# Altium schematic symbol library jlcpcb_2025_04_ferrites_extended_1206.schlib: 308 symbols (part 3 of 6)
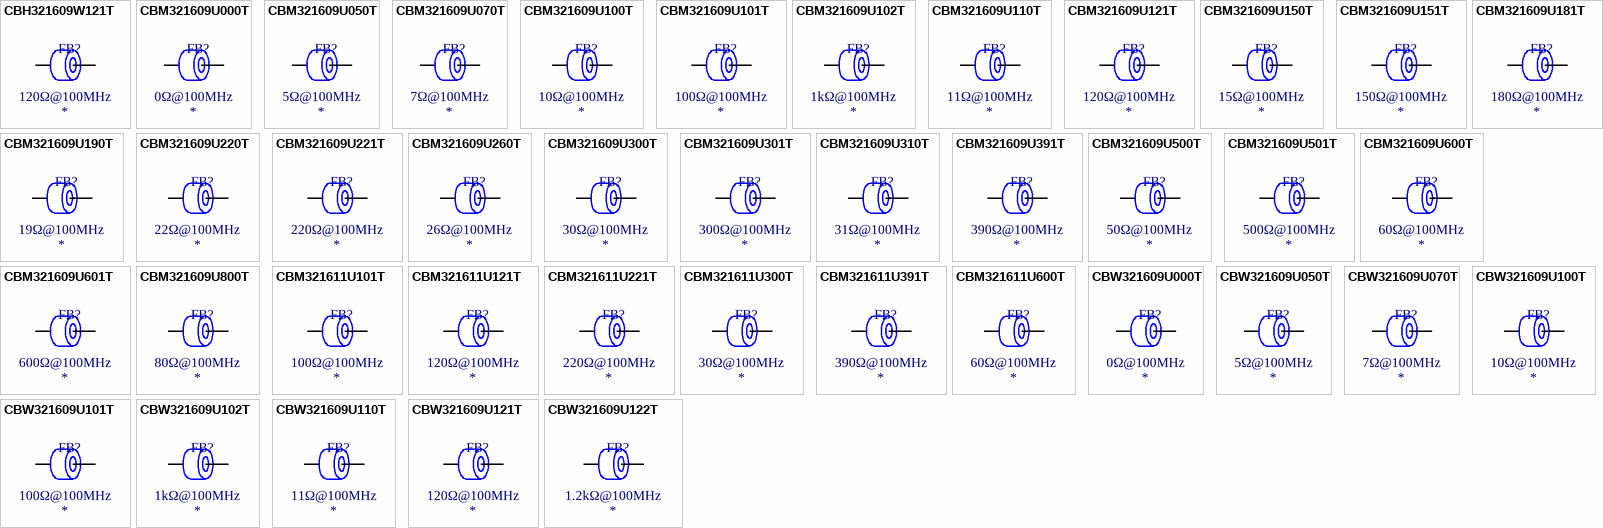
[diagram p9: symbols CBH321609W121T to CBW321609U122T]

## CBM321611U600T
designator FB?  Impedance @ Frequency: 60Ω@100MHz
Ferrite, 60Ω@100MHz, SMD 1206; Manufacturer: FH (Guangdong Fenghua Advanced Tech); Manufacturer Part Number: CBM321611U600T; Package Size: 1206; JLCPCB Basic Part: No; JLCPCB Part Number: C394451; Supplier 1: LCSC; Category: Ferrite Beads; Supplier Part Number 1: C394451; RoHS: Yes; ComponentLink1Description: Datasheet; ComponentLink2Description: JLCPCB Part URL; ComponentLink2URL: https://jlcpcb.com/partdetail/C394451; ComponentLink3Description: LCSC Part URL; ComponentLink3URL: https://lcsc.com/product-detail/Ferrite-Beads_FH-Guangdong-Fenghua-Advanced-Tech-FH-Guangdong-Fenghua-Advanced-Tech-CBM321611U600T_C394451.html
pins: 1, 2

## CBW321609U000T
designator FB?  Impedance @ Frequency: 0Ω@100MHz
Ferrite, 0Ω@100MHz, 40mΩ, 4A, SMD 1206; Manufacturer: FH(Guangdong Fenghua Advanced Tech); Manufacturer Part Number: CBW321609U000T; Package Size: 1206; JLCPCB Basic Part: No; JLCPCB Part Number: C139194; Supplier 1: LCSC; Category: Ferrite Beads; Supplier Part Number 1: C139194; Rated Current: 4A; DC Resistance: 40mΩ; RoHS: Yes; ComponentLink1Description: Datasheet; ComponentLink1URL: https://wmsc.lcsc.com/wmsc/upload/file/pdf/v2/lcsc/2304140030_FH--Guangdong-Fenghua-Advanced-Tech-CBW321609U000T_C139194.pdf; ComponentLink2Description: JLCPCB Part URL; ComponentLink2URL: https://jlcpcb.com/partdetail/C139194; ComponentLink3Description: LCSC Part URL; ComponentLink3URL: https://lcsc.com/product-detail/Ferrite-Beads_FH-Guangdong-Fenghua-Advanced-Tech-FH-Guangdong-Fenghua-Advanced-Tech-CBW321609U000T_C139194.html
pins: 1, 2

## CBW321609U050T
designator FB?  Impedance @ Frequency: 5Ω@100MHz
Ferrite, 5Ω@100MHz, 40mΩ, 4A, SMD 1206; Manufacturer: FH(Guangdong Fenghua Advanced Tech); Manufacturer Part Number: CBW321609U050T; Package Size: 1206; JLCPCB Basic Part: No; JLCPCB Part Number: C139195; Supplier 1: LCSC; Category: Ferrite Beads; Supplier Part Number 1: C139195; Rated Current: 4A; DC Resistance: 40mΩ; RoHS: Yes; ComponentLink1Description: Datasheet; ComponentLink1URL: https://wmsc.lcsc.com/wmsc/upload/file/pdf/v2/lcsc/2304140030_FH--Guangdong-Fenghua-Advanced-Tech-CBW321609U050T_C139195.pdf; ComponentLink2Description: JLCPCB Part URL; ComponentLink2URL: https://jlcpcb.com/partdetail/C139195; ComponentLink3Description: LCSC Part URL; ComponentLink3URL: https://lcsc.com/product-detail/Ferrite-Beads_FH-Guangdong-Fenghua-Advanced-Tech-FH-Guangdong-Fenghua-Advanced-Tech-CBW321609U050T_C139195.html
pins: 1, 2

## CBW321609U070T
designator FB?  Impedance @ Frequency: 7Ω@100MHz
Ferrite, 7Ω@100MHz, 40mΩ, 4A, SMD 1206; Manufacturer: FH(Guangdong Fenghua Advanced Tech); Manufacturer Part Number: CBW321609U070T; Package Size: 1206; JLCPCB Basic Part: No; JLCPCB Part Number: C394495; Supplier 1: LCSC; Category: Ferrite Beads; Supplier Part Number 1: C394495; Rated Current: 4A; DC Resistance: 40mΩ; RoHS: Yes; ComponentLink1Description: Datasheet; ComponentLink1URL: https://wmsc.lcsc.com/wmsc/upload/file/pdf/v2/lcsc/2304140030_FH--Guangdong-Fenghua-Advanced-Tech-CBW321609U070T_C394495.pdf; ComponentLink2Description: JLCPCB Part URL; ComponentLink2URL: https://jlcpcb.com/partdetail/C394495; ComponentLink3Description: LCSC Part URL; ComponentLink3URL: https://lcsc.com/product-detail/Ferrite-Beads_FH-Guangdong-Fenghua-Advanced-Tech-FH-Guangdong-Fenghua-Advanced-Tech-CBW321609U070T_C394495.html
pins: 1, 2

## CBW321609U100T
designator FB?  Impedance @ Frequency: 10Ω@100MHz
Ferrite, 10Ω@100MHz, ±25%, SMD 1206; Manufacturer: FH(Guangdong Fenghua Advanced Tech); Manufacturer Part Number: CBW321609U100T; Package Size: 1206; JLCPCB Basic Part: No; JLCPCB Part Number: C139196; Supplier 1: LCSC; Category: Ferrite Beads; Supplier Part Number 1: C139196; Tolerance: ±25%; RoHS: Yes; ComponentLink1Description: Datasheet; ComponentLink1URL: https://wmsc.lcsc.com/wmsc/upload/file/pdf/v2/lcsc/2304140030_FH--Guangdong-Fenghua-Advanced-Tech-CBW321609U100T_C139196.pdf; ComponentLink2Description: JLCPCB Part URL; ComponentLink2URL: https://jlcpcb.com/partdetail/C139196; ComponentLink3Description: LCSC Part URL; ComponentLink3URL: https://lcsc.com/product-detail/Ferrite-Beads_FH-Guangdong-Fenghua-Advanced-Tech-FH-Guangdong-Fenghua-Advanced-Tech-CBW321609U100T_C139196.html
pins: 1, 2

## CBW321609U101T
designator FB?  Impedance @ Frequency: 100Ω@100MHz
Ferrite, 100Ω@100MHz, ±25%, 100mΩ, 3A, SMD 1206; Manufacturer: FH(Guangdong Fenghua Advanced Tech); Manufacturer Part Number: CBW321609U101T; Package Size: 1206; JLCPCB Basic Part: No; JLCPCB Part Number: C91466; Supplier 1: LCSC; Category: Ferrite Beads; Supplier Part Number 1: C91466; Tolerance: ±25%; Rated Current: 3A; DC Resistance: 100mΩ; RoHS: Yes; ComponentLink1Description: Datasheet; ComponentLink1URL: https://wmsc.lcsc.com/wmsc/upload/file/pdf/v2/lcsc/2304140030_FH--Guangdong-Fenghua-Advanced-Tech-CBW321609U101T_C91466.pdf; ComponentLink2Description: JLCPCB Part URL; ComponentLink2URL: https://jlcpcb.com/partdetail/C91466; ComponentLink3Description: LCSC Part URL; ComponentLink3URL: https://lcsc.com/product-detail/Ferrite-Beads_FH-Guangdong-Fenghua-Advanced-Tech-FH-Guangdong-Fenghua-Advanced-Tech-CBW321609U101T_C91466.html
footprint FB-1206 (1206 (3216M) Ferrite)
pins: 1, 2

## CBW321609U102T
designator FB?  Impedance @ Frequency: 1kΩ@100MHz
Ferrite, 1kΩ@100MHz, ±25%, 300mΩ, 2A, SMD 1206; Manufacturer: FH(Guangdong Fenghua Advanced Tech); Manufacturer Part Number: CBW321609U102T; Package Size: 1206; JLCPCB Basic Part: No; JLCPCB Part Number: C113327; Supplier 1: LCSC; Category: Ferrite Beads; Supplier Part Number 1: C113327; Tolerance: ±25%; Rated Current: 2A; DC Resistance: 300mΩ; RoHS: Yes; ComponentLink1Description: Datasheet; ComponentLink1URL: https://wmsc.lcsc.com/wmsc/upload/file/pdf/v2/lcsc/2304140030_FH--Guangdong-Fenghua-Advanced-Tech-CBW321609U102T_C113327.pdf; ComponentLink2Description: JLCPCB Part URL; ComponentLink2URL: https://jlcpcb.com/partdetail/C113327; ComponentLink3Description: LCSC Part URL; ComponentLink3URL: https://lcsc.com/product-detail/Ferrite-Beads_FH-Guangdong-Fenghua-Advanced-Tech-FH-Guangdong-Fenghua-Advanced-Tech-CBW321609U102T_C113327.html
footprint FB-1206 (1206 (3216M) Ferrite)
pins: 1, 2

## CBW321609U110T
designator FB?  Impedance @ Frequency: 11Ω@100MHz
Ferrite, 11Ω@100MHz, 50mΩ, 4A, SMD 1206; Manufacturer: FH(Guangdong Fenghua Advanced Tech); Manufacturer Part Number: CBW321609U110T; Package Size: 1206; JLCPCB Basic Part: No; JLCPCB Part Number: C394496; Supplier 1: LCSC; Category: Ferrite Beads; Supplier Part Number 1: C394496; Rated Current: 4A; DC Resistance: 50mΩ; RoHS: Yes; ComponentLink1Description: Datasheet; ComponentLink1URL: https://wmsc.lcsc.com/wmsc/upload/file/pdf/v2/lcsc/2304140030_FH--Guangdong-Fenghua-Advanced-Tech-CBW321609U110T_C394496.pdf; ComponentLink2Description: JLCPCB Part URL; ComponentLink2URL: https://jlcpcb.com/partdetail/C394496; ComponentLink3Description: LCSC Part URL; ComponentLink3URL: https://lcsc.com/product-detail/Ferrite-Beads_FH-Guangdong-Fenghua-Advanced-Tech-FH-Guangdong-Fenghua-Advanced-Tech-CBW321609U110T_C394496.html
pins: 1, 2

## CBW321609U121T
designator FB?  Impedance @ Frequency: 120Ω@100MHz
Ferrite, 120Ω@100MHz, ±25%, 100mΩ, 3A, SMD 1206; Manufacturer: FH(Guangdong Fenghua Advanced Tech); Manufacturer Part Number: CBW321609U121T; Package Size: 1206; JLCPCB Basic Part: No; JLCPCB Part Number: C139197; Supplier 1: LCSC; Category: Ferrite Beads; Supplier Part Number 1: C139197; Tolerance: ±25%; Rated Current: 3A; DC Resistance: 100mΩ; RoHS: Yes; ComponentLink1Description: Datasheet; ComponentLink1URL: https://wmsc.lcsc.com/wmsc/upload/file/pdf/v2/lcsc/2304140030_FH--Guangdong-Fenghua-Advanced-Tech-CBW321609U121T_C139197.pdf; ComponentLink2Description: JLCPCB Part URL; ComponentLink2URL: https://jlcpcb.com/partdetail/C139197; ComponentLink3Description: LCSC Part URL; ComponentLink3URL: https://lcsc.com/product-detail/Ferrite-Beads_FH-Guangdong-Fenghua-Advanced-Tech-FH-Guangdong-Fenghua-Advanced-Tech-CBW321609U121T_C139197.html
footprint FB-1206 (1206 (3216M) Ferrite)
pins: 1, 2

## CBW321609U122T
designator FB?  Impedance @ Frequency: 1.2kΩ@100MHz
Ferrite, 1.2kΩ@100MHz, ±25%, 350mΩ, 1A, SMD 1206; Manufacturer: FH(Guangdong Fenghua Advanced Tech); Manufacturer Part Number: CBW321609U122T; Package Size: 1206; JLCPCB Basic Part: No; JLCPCB Part Number: C129398; Supplier 1: LCSC; Category: Ferrite Beads; Supplier Part Number 1: C129398; Tolerance: ±25%; Rated Current: 1A; DC Resistance: 350mΩ; RoHS: Yes; ComponentLink1Description: Datasheet; ComponentLink1URL: https://wmsc.lcsc.com/wmsc/upload/file/pdf/v2/lcsc/2304140030_FH--Guangdong-Fenghua-Advanced-Tech-CBW321609U122T_C129398.pdf; ComponentLink2Description: JLCPCB Part URL; ComponentLink2URL: https://jlcpcb.com/partdetail/C129398; ComponentLink3Description: LCSC Part URL; ComponentLink3URL: https://lcsc.com/product-detail/Ferrite-Beads_FH-Guangdong-Fenghua-Advanced-Tech-FH-Guangdong-Fenghua-Advanced-Tech-CBW321609U122T_C129398.html
footprint FB-1206 (1206 (3216M) Ferrite)
pins: 1, 2

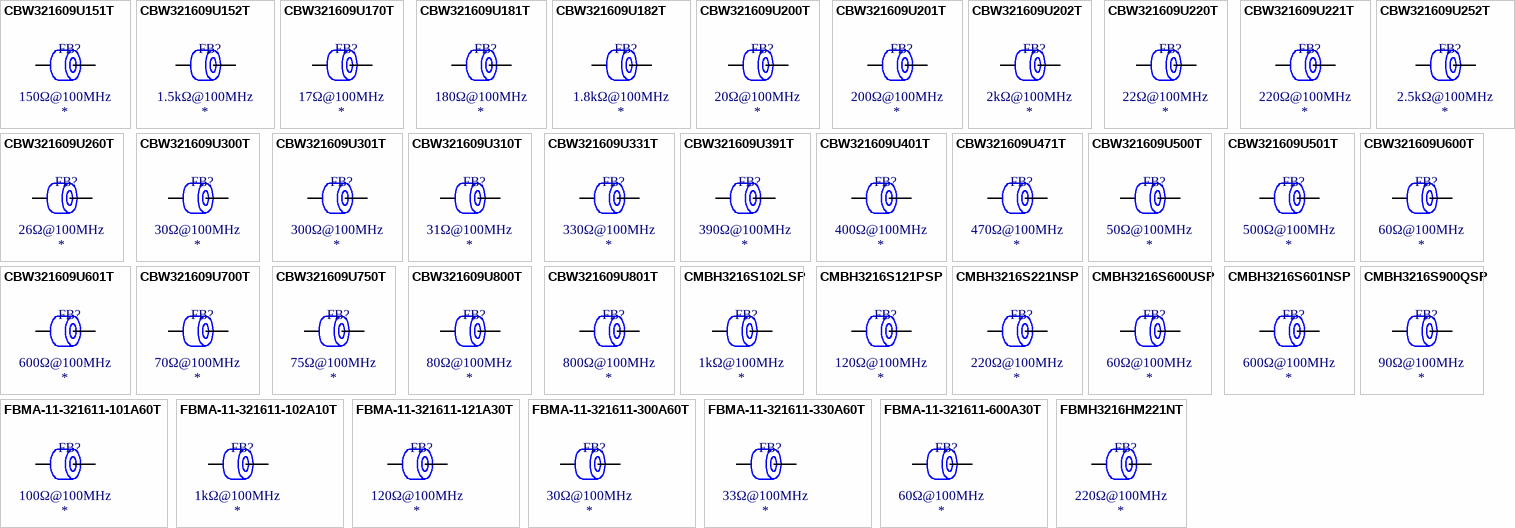
[diagram p3: symbols CBW321609U151T to FBMH3216HM221NT]

## CBW321609U151T
designator FB?  Impedance @ Frequency: 150Ω@100MHz
Ferrite, 150Ω@100MHz, ±25%, 150mΩ, 2.5A, SMD 1206; Manufacturer: FH(Guangdong Fenghua Advanced Tech); Manufacturer Part Number: CBW321609U151T; Package Size: 1206; JLCPCB Basic Part: No; JLCPCB Part Number: C171644; Supplier 1: LCSC; Category: Ferrite Beads; Supplier Part Number 1: C171644; Tolerance: ±25%; Rated Current: 2.5A; DC Resistance: 150mΩ; RoHS: Yes; ComponentLink1Description: Datasheet; ComponentLink1URL: https://wmsc.lcsc.com/wmsc/upload/file/pdf/v2/lcsc/2304140030_FH--Guangdong-Fenghua-Advanced-Tech-CBW321609U151T_C171644.pdf; ComponentLink2Description: JLCPCB Part URL; ComponentLink2URL: https://jlcpcb.com/partdetail/C171644; ComponentLink3Description: LCSC Part URL; ComponentLink3URL: https://lcsc.com/product-detail/Ferrite-Beads_FH-Guangdong-Fenghua-Advanced-Tech-FH-Guangdong-Fenghua-Advanced-Tech-CBW321609U151T_C171644.html
footprint FB-1206 (1206 (3216M) Ferrite)
pins: 1, 2

## CBW321609U152T
designator FB?  Impedance @ Frequency: 1.5kΩ@100MHz
Ferrite, 1.5kΩ@100MHz, ±25%, 450mΩ, 500mA, SMD 1206; Manufacturer: FH(Guangdong Fenghua Advanced Tech); Manufacturer Part Number: CBW321609U152T; Package Size: 1206; JLCPCB Basic Part: No; JLCPCB Part Number: C394497; Supplier 1: LCSC; Category: Ferrite Beads; Supplier Part Number 1: C394497; Tolerance: ±25%; Rated Current: 500mA; DC Resistance: 450mΩ; RoHS: Yes; ComponentLink1Description: Datasheet; ComponentLink1URL: https://wmsc.lcsc.com/wmsc/upload/file/pdf/v2/lcsc/2304140030_FH--Guangdong-Fenghua-Advanced-Tech-CBW321609U152T_C394497.pdf; ComponentLink2Description: JLCPCB Part URL; ComponentLink2URL: https://jlcpcb.com/partdetail/C394497; ComponentLink3Description: LCSC Part URL; ComponentLink3URL: https://lcsc.com/product-detail/Ferrite-Beads_FH-Guangdong-Fenghua-Advanced-Tech-FH-Guangdong-Fenghua-Advanced-Tech-CBW321609U152T_C394497.html
footprint FB-1206 (1206 (3216M) Ferrite)
pins: 1, 2

## CBW321609U170T
designator FB?  Impedance @ Frequency: 17Ω@100MHz
Ferrite, 17Ω@100MHz, ±25%, SMD 1206; Manufacturer: FH(Guangdong Fenghua Advanced Tech); Manufacturer Part Number: CBW321609U170T; Package Size: 1206; JLCPCB Basic Part: No; JLCPCB Part Number: C394498; Supplier 1: LCSC; Category: Ferrite Beads; Supplier Part Number 1: C394498; Tolerance: ±25%; RoHS: Yes; ComponentLink1Description: Datasheet; ComponentLink1URL: https://wmsc.lcsc.com/wmsc/upload/file/pdf/v2/lcsc/1912111437_FH--Guangdong-Fenghua-Advanced-Tech-CBW321609U170T_C394498.pdf; ComponentLink2Description: JLCPCB Part URL; ComponentLink2URL: https://jlcpcb.com/partdetail/C394498; ComponentLink3Description: LCSC Part URL; ComponentLink3URL: https://lcsc.com/product-detail/Ferrite-Beads_FH-Guangdong-Fenghua-Advanced-Tech-FH-Guangdong-Fenghua-Advanced-Tech-CBW321609U170T_C394498.html
pins: 1, 2

## CBW321609U181T
designator FB?  Impedance @ Frequency: 180Ω@100MHz
Ferrite, 180Ω@100MHz, ±25%, 200mΩ, 2.5A, SMD 1206; Manufacturer: FH(Guangdong Fenghua Advanced Tech); Manufacturer Part Number: CBW321609U181T; Package Size: 1206; JLCPCB Basic Part: No; JLCPCB Part Number: C171645; Supplier 1: LCSC; Category: Ferrite Beads; Supplier Part Number 1: C171645; Tolerance: ±25%; Rated Current: 2.5A; DC Resistance: 200mΩ; RoHS: Yes; ComponentLink1Description: Datasheet; ComponentLink1URL: https://wmsc.lcsc.com/wmsc/upload/file/pdf/v2/lcsc/2304140030_FH--Guangdong-Fenghua-Advanced-Tech-CBW321609U181T_C171645.pdf; ComponentLink2Description: JLCPCB Part URL; ComponentLink2URL: https://jlcpcb.com/partdetail/C171645; ComponentLink3Description: LCSC Part URL; ComponentLink3URL: https://lcsc.com/product-detail/Ferrite-Beads_FH-Guangdong-Fenghua-Advanced-Tech-FH-Guangdong-Fenghua-Advanced-Tech-CBW321609U181T_C171645.html
footprint FB-1206 (1206 (3216M) Ferrite)
pins: 1, 2

## CBW321609U182T
designator FB?  Impedance @ Frequency: 1.8kΩ@100MHz
Ferrite, 1.8kΩ@100MHz, ±25%, 600mΩ, 500mA, SMD 1206; Manufacturer: FH(Guangdong Fenghua Advanced Tech); Manufacturer Part Number: CBW321609U182T; Package Size: 1206; JLCPCB Basic Part: No; JLCPCB Part Number: C394499; Supplier 1: LCSC; Category: Ferrite Beads; Supplier Part Number 1: C394499; Tolerance: ±25%; Rated Current: 500mA; DC Resistance: 600mΩ; RoHS: Yes; ComponentLink1Description: Datasheet; ComponentLink1URL: https://wmsc.lcsc.com/wmsc/upload/file/pdf/v2/lcsc/2304140030_FH--Guangdong-Fenghua-Advanced-Tech-CBW321609U182T_C394499.pdf; ComponentLink2Description: JLCPCB Part URL; ComponentLink2URL: https://jlcpcb.com/partdetail/C394499; ComponentLink3Description: LCSC Part URL; ComponentLink3URL: https://lcsc.com/product-detail/Ferrite-Beads_FH-Guangdong-Fenghua-Advanced-Tech-FH-Guangdong-Fenghua-Advanced-Tech-CBW321609U182T_C394499.html
footprint FB-1206 (1206 (3216M) Ferrite)
pins: 1, 2

## CBW321609U200T
designator FB?  Impedance @ Frequency: 20Ω@100MHz
Ferrite, 20Ω@100MHz, ±25%, SMD 1206; Manufacturer: FH(Guangdong Fenghua Advanced Tech); Manufacturer Part Number: CBW321609U200T; Package Size: 1206; JLCPCB Basic Part: No; JLCPCB Part Number: C394501; Supplier 1: LCSC; Category: Ferrite Beads; Supplier Part Number 1: C394501; Tolerance: ±25%; RoHS: Yes; ComponentLink1Description: Datasheet; ComponentLink1URL: https://wmsc.lcsc.com/wmsc/upload/file/pdf/v2/lcsc/1912111437_FH--Guangdong-Fenghua-Advanced-Tech-CBW321609U200T_C394501.pdf; ComponentLink2Description: JLCPCB Part URL; ComponentLink2URL: https://jlcpcb.com/partdetail/C394501; ComponentLink3Description: LCSC Part URL; ComponentLink3URL: https://lcsc.com/product-detail/Ferrite-Beads_FH-Guangdong-Fenghua-Advanced-Tech-FH-Guangdong-Fenghua-Advanced-Tech-CBW321609U200T_C394501.html
pins: 1, 2

## CBW321609U201T
designator FB?  Impedance @ Frequency: 200Ω@100MHz
Ferrite, 200Ω@100MHz, ±25%, SMD 1206; Manufacturer: FH(Guangdong Fenghua Advanced Tech); Manufacturer Part Number: CBW321609U201T; Package Size: 1206; JLCPCB Basic Part: No; JLCPCB Part Number: C139198; Supplier 1: LCSC; Category: Ferrite Beads; Supplier Part Number 1: C139198; Tolerance: ±25%; RoHS: Yes; ComponentLink1Description: Datasheet; ComponentLink1URL: https://wmsc.lcsc.com/wmsc/upload/file/pdf/v2/lcsc/2304140030_FH--Guangdong-Fenghua-Advanced-Tech-CBW321609U201T_C139198.pdf; ComponentLink2Description: JLCPCB Part URL; ComponentLink2URL: https://jlcpcb.com/partdetail/C139198; ComponentLink3Description: LCSC Part URL; ComponentLink3URL: https://lcsc.com/product-detail/Ferrite-Beads_FH-Guangdong-Fenghua-Advanced-Tech-FH-Guangdong-Fenghua-Advanced-Tech-CBW321609U201T_C139198.html
pins: 1, 2

## CBW321609U202T
designator FB?  Impedance @ Frequency: 2kΩ@100MHz
Ferrite, 2kΩ@100MHz, ±25%, 700mΩ, 300mA, SMD 1206; Manufacturer: FH(Guangdong Fenghua Advanced Tech); Manufacturer Part Number: CBW321609U202T; Package Size: 1206; JLCPCB Basic Part: No; JLCPCB Part Number: C268314; Supplier 1: LCSC; Category: Ferrite Beads; Supplier Part Number 1: C268314; Tolerance: ±25%; Rated Current: 300mA; DC Resistance: 700mΩ; RoHS: Yes; ComponentLink1Description: Datasheet; ComponentLink1URL: https://wmsc.lcsc.com/wmsc/upload/file/pdf/v2/lcsc/2304140030_FH--Guangdong-Fenghua-Advanced-Tech-CBW321609U202T_C268314.pdf; ComponentLink2Description: JLCPCB Part URL; ComponentLink2URL: https://jlcpcb.com/partdetail/C268314; ComponentLink3Description: LCSC Part URL; ComponentLink3URL: https://lcsc.com/product-detail/Ferrite-Beads_FH-Guangdong-Fenghua-Advanced-Tech-FH-Guangdong-Fenghua-Advanced-Tech-CBW321609U202T_C268314.html
footprint FB-1206 (1206 (3216M) Ferrite)
pins: 1, 2

## CBW321609U220T
designator FB?  Impedance @ Frequency: 22Ω@100MHz
Ferrite, 22Ω@100MHz, ±25%, SMD 1206; Manufacturer: FH(Guangdong Fenghua Advanced Tech); Manufacturer Part Number: CBW321609U220T; Package Size: 1206; JLCPCB Basic Part: No; JLCPCB Part Number: C394502; Supplier 1: LCSC; Category: Ferrite Beads; Supplier Part Number 1: C394502; Tolerance: ±25%; RoHS: Yes; ComponentLink1Description: Datasheet; ComponentLink1URL: https://wmsc.lcsc.com/wmsc/upload/file/pdf/v2/lcsc/2304140030_FH--Guangdong-Fenghua-Advanced-Tech-CBW321609U220T_C394502.pdf; ComponentLink2Description: JLCPCB Part URL; ComponentLink2URL: https://jlcpcb.com/partdetail/C394502; ComponentLink3Description: LCSC Part URL; ComponentLink3URL: https://lcsc.com/product-detail/Ferrite-Beads_FH-Guangdong-Fenghua-Advanced-Tech-FH-Guangdong-Fenghua-Advanced-Tech-CBW321609U220T_C394502.html
pins: 1, 2

## CBW321609U221T
designator FB?  Impedance @ Frequency: 220Ω@100MHz
Ferrite, 220Ω@100MHz, ±25%, 200mΩ, 2.5A, SMD 1206; Manufacturer: FH(Guangdong Fenghua Advanced Tech); Manufacturer Part Number: CBW321609U221T; Package Size: 1206; JLCPCB Basic Part: No; JLCPCB Part Number: C98487; Supplier 1: LCSC; Category: Ferrite Beads; Supplier Part Number 1: C98487; Tolerance: ±25%; Rated Current: 2.5A; DC Resistance: 200mΩ; RoHS: Yes; ComponentLink1Description: Datasheet; ComponentLink1URL: https://wmsc.lcsc.com/wmsc/upload/file/pdf/v2/lcsc/2304140030_FH--Guangdong-Fenghua-Advanced-Tech-CBW321609U221T_C98487.pdf; ComponentLink2Description: JLCPCB Part URL; ComponentLink2URL: https://jlcpcb.com/partdetail/C98487; ComponentLink3Description: LCSC Part URL; ComponentLink3URL: https://lcsc.com/product-detail/Ferrite-Beads_FH-Guangdong-Fenghua-Advanced-Tech-FH-Guangdong-Fenghua-Advanced-Tech-CBW321609U221T_C98487.html
footprint FB-1206 (1206 (3216M) Ferrite)
pins: 1, 2

## CBW321609U252T
designator FB?  Impedance @ Frequency: 2.5kΩ@100MHz
Ferrite, 2.5kΩ@100MHz, ±25%, 900mΩ, 200mA, SMD 1206; Manufacturer: FH(Guangdong Fenghua Advanced Tech); Manufacturer Part Number: CBW321609U252T; Package Size: 1206; JLCPCB Basic Part: No; JLCPCB Part Number: C394503; Supplier 1: LCSC; Category: Ferrite Beads; Supplier Part Number 1: C394503; Tolerance: ±25%; Rated Current: 200mA; DC Resistance: 900mΩ; RoHS: Yes; ComponentLink1Description: Datasheet; ComponentLink1URL: https://wmsc.lcsc.com/wmsc/upload/file/pdf/v2/lcsc/1912111437_FH--Guangdong-Fenghua-Advanced-Tech-CBW321609U252T_C394503.pdf; ComponentLink2Description: JLCPCB Part URL; ComponentLink2URL: https://jlcpcb.com/partdetail/C394503; ComponentLink3Description: LCSC Part URL; ComponentLink3URL: https://lcsc.com/product-detail/Ferrite-Beads_FH-Guangdong-Fenghua-Advanced-Tech-FH-Guangdong-Fenghua-Advanced-Tech-CBW321609U252T_C394503.html
footprint FB-1206 (1206 (3216M) Ferrite)
pins: 1, 2

## CBW321609U260T
designator FB?  Impedance @ Frequency: 26Ω@100MHz
Ferrite, 26Ω@100MHz, ±25%, 50mΩ, 3A, SMD 1206; Manufacturer: FH(Guangdong Fenghua Advanced Tech); Manufacturer Part Number: CBW321609U260T; Package Size: 1206; JLCPCB Basic Part: No; JLCPCB Part Number: C394504; Supplier 1: LCSC; Category: Ferrite Beads; Supplier Part Number 1: C394504; Tolerance: ±25%; Rated Current: 3A; DC Resistance: 50mΩ; RoHS: Yes; ComponentLink1Description: Datasheet; ComponentLink1URL: https://wmsc.lcsc.com/wmsc/upload/file/pdf/v2/lcsc/2304140030_FH--Guangdong-Fenghua-Advanced-Tech-CBW321609U260T_C394504.pdf; ComponentLink2Description: JLCPCB Part URL; ComponentLink2URL: https://jlcpcb.com/partdetail/C394504; ComponentLink3Description: LCSC Part URL; ComponentLink3URL: https://lcsc.com/product-detail/Ferrite-Beads_FH-Guangdong-Fenghua-Advanced-Tech-FH-Guangdong-Fenghua-Advanced-Tech-CBW321609U260T_C394504.html
footprint FB-1206 (1206 (3216M) Ferrite)
pins: 1, 2

## CBW321609U300T
designator FB?  Impedance @ Frequency: 30Ω@100MHz
Ferrite, 30Ω@100MHz, ±25%, 80mΩ, 3A, SMD 1206; Manufacturer: FH(Guangdong Fenghua Advanced Tech); Manufacturer Part Number: CBW321609U300T; Package Size: 1206; JLCPCB Basic Part: No; JLCPCB Part Number: C139199; Supplier 1: LCSC; Category: Ferrite Beads; Supplier Part Number 1: C139199; Tolerance: ±25%; Rated Current: 3A; DC Resistance: 80mΩ; RoHS: Yes; ComponentLink1Description: Datasheet; ComponentLink1URL: https://wmsc.lcsc.com/wmsc/upload/file/pdf/v2/lcsc/2304140030_FH--Guangdong-Fenghua-Advanced-Tech-CBW321609U300T_C139199.pdf; ComponentLink2Description: JLCPCB Part URL; ComponentLink2URL: https://jlcpcb.com/partdetail/C139199; ComponentLink3Description: LCSC Part URL; ComponentLink3URL: https://lcsc.com/product-detail/Ferrite-Beads_FH-Guangdong-Fenghua-Advanced-Tech-FH-Guangdong-Fenghua-Advanced-Tech-CBW321609U300T_C139199.html
footprint FB-1206 (1206 (3216M) Ferrite)
pins: 1, 2

## CBW321609U301T
designator FB?  Impedance @ Frequency: 300Ω@100MHz
Ferrite, 300Ω@100MHz, ±25%, 200mΩ, 2A, SMD 1206; Manufacturer: FH(Guangdong Fenghua Advanced Tech); Manufacturer Part Number: CBW321609U301T; Package Size: 1206; JLCPCB Basic Part: No; JLCPCB Part Number: C131462; Supplier 1: LCSC; Category: Ferrite Beads; Supplier Part Number 1: C131462; Tolerance: ±25%; Rated Current: 2A; DC Resistance: 200mΩ; RoHS: Yes; ComponentLink1Description: Datasheet; ComponentLink1URL: https://wmsc.lcsc.com/wmsc/upload/file/pdf/v2/lcsc/2304140030_FH--Guangdong-Fenghua-Advanced-Tech-CBW321609U301T_C131462.pdf; ComponentLink2Description: JLCPCB Part URL; ComponentLink2URL: https://jlcpcb.com/partdetail/C131462; ComponentLink3Description: LCSC Part URL; ComponentLink3URL: https://lcsc.com/product-detail/Ferrite-Beads_FH-Guangdong-Fenghua-Advanced-Tech-FH-Guangdong-Fenghua-Advanced-Tech-CBW321609U301T_C131462.html
footprint FB-1206 (1206 (3216M) Ferrite)
pins: 1, 2

## CBW321609U310T
designator FB?  Impedance @ Frequency: 31Ω@100MHz
Ferrite, 31Ω@100MHz, ±25%, 80mΩ, 3A, SMD 1206; Manufacturer: FH(Guangdong Fenghua Advanced Tech); Manufacturer Part Number: CBW321609U310T; Package Size: 1206; JLCPCB Basic Part: No; JLCPCB Part Number: C394505; Supplier 1: LCSC; Category: Ferrite Beads; Supplier Part Number 1: C394505; Tolerance: ±25%; Rated Current: 3A; DC Resistance: 80mΩ; RoHS: Yes; ComponentLink1Description: Datasheet; ComponentLink1URL: https://wmsc.lcsc.com/wmsc/upload/file/pdf/v2/lcsc/2304140030_FH--Guangdong-Fenghua-Advanced-Tech-CBW321609U310T_C394505.pdf; ComponentLink2Description: JLCPCB Part URL; ComponentLink2URL: https://jlcpcb.com/partdetail/C394505; ComponentLink3Description: LCSC Part URL; ComponentLink3URL: https://lcsc.com/product-detail/Ferrite-Beads_FH-Guangdong-Fenghua-Advanced-Tech-FH-Guangdong-Fenghua-Advanced-Tech-CBW321609U310T_C394505.html
footprint FB-1206 (1206 (3216M) Ferrite)
pins: 1, 2

## CBW321609U331T
designator FB?  Impedance @ Frequency: 330Ω@100MHz
Ferrite, 330Ω@100MHz, ±25%, SMD 1206; Manufacturer: FH(Guangdong Fenghua Advanced Tech); Manufacturer Part Number: CBW321609U331T; Package Size: 1206; JLCPCB Basic Part: No; JLCPCB Part Number: C394506; Supplier 1: LCSC; Category: Ferrite Beads; Supplier Part Number 1: C394506; Tolerance: ±25%; RoHS: Yes; ComponentLink1Description: Datasheet; ComponentLink1URL: https://wmsc.lcsc.com/wmsc/upload/file/pdf/v2/lcsc/2304140030_FH--Guangdong-Fenghua-Advanced-Tech-CBW321609U331T_C394506.pdf; ComponentLink2Description: JLCPCB Part URL; ComponentLink2URL: https://jlcpcb.com/partdetail/C394506; ComponentLink3Description: LCSC Part URL; ComponentLink3URL: https://lcsc.com/product-detail/Ferrite-Beads_FH-Guangdong-Fenghua-Advanced-Tech-FH-Guangdong-Fenghua-Advanced-Tech-CBW321609U331T_C394506.html
pins: 1, 2

## CBW321609U391T
designator FB?  Impedance @ Frequency: 390Ω@100MHz
Ferrite, 390Ω@100MHz, ±25%, SMD 1206; Manufacturer: FH(Guangdong Fenghua Advanced Tech); Manufacturer Part Number: CBW321609U391T; Package Size: 1206; JLCPCB Basic Part: No; JLCPCB Part Number: C139200; Supplier 1: LCSC; Category: Ferrite Beads; Supplier Part Number 1: C139200; Tolerance: ±25%; RoHS: Yes; ComponentLink1Description: Datasheet; ComponentLink1URL: https://wmsc.lcsc.com/wmsc/upload/file/pdf/v2/lcsc/1810311214_FH--Guangdong-Fenghua-Advanced-Tech-CBW321609U391T_C139200.pdf; ComponentLink2Description: JLCPCB Part URL; ComponentLink2URL: https://jlcpcb.com/partdetail/C139200; ComponentLink3Description: LCSC Part URL; ComponentLink3URL: https://lcsc.com/product-detail/Ferrite-Beads_FH-Guangdong-Fenghua-Advanced-Tech-FH-Guangdong-Fenghua-Advanced-Tech-CBW321609U391T_C139200.html
pins: 1, 2

## CBW321609U401T
designator FB?  Impedance @ Frequency: 400Ω@100MHz
Ferrite, 400Ω@100MHz, ±25%, SMD 1206; Manufacturer: FH(Guangdong Fenghua Advanced Tech); Manufacturer Part Number: CBW321609U401T; Package Size: 1206; JLCPCB Basic Part: No; JLCPCB Part Number: C394507; Supplier 1: LCSC; Category: Ferrite Beads; Supplier Part Number 1: C394507; Tolerance: ±25%; RoHS: Yes; ComponentLink1Description: Datasheet; ComponentLink1URL: https://wmsc.lcsc.com/wmsc/upload/file/pdf/v2/lcsc/1912111437_FH--Guangdong-Fenghua-Advanced-Tech-CBW321609U401T_C394507.pdf; ComponentLink2Description: JLCPCB Part URL; ComponentLink2URL: https://jlcpcb.com/partdetail/C394507; ComponentLink3Description: LCSC Part URL; ComponentLink3URL: https://lcsc.com/product-detail/Ferrite-Beads_FH-Guangdong-Fenghua-Advanced-Tech-FH-Guangdong-Fenghua-Advanced-Tech-CBW321609U401T_C394507.html
pins: 1, 2

## CBW321609U471T
designator FB?  Impedance @ Frequency: 470Ω@100MHz
Ferrite, 470Ω@100MHz, ±25%, SMD 1206; Manufacturer: FH(Guangdong Fenghua Advanced Tech); Manufacturer Part Number: CBW321609U471T; Package Size: 1206; JLCPCB Basic Part: No; JLCPCB Part Number: C394508; Supplier 1: LCSC; Category: Ferrite Beads; Supplier Part Number 1: C394508; Tolerance: ±25%; RoHS: Yes; ComponentLink1Description: Datasheet; ComponentLink1URL: https://wmsc.lcsc.com/wmsc/upload/file/pdf/v2/lcsc/2304140030_FH--Guangdong-Fenghua-Advanced-Tech-CBW321609U471T_C394508.pdf; ComponentLink2Description: JLCPCB Part URL; ComponentLink2URL: https://jlcpcb.com/partdetail/C394508; ComponentLink3Description: LCSC Part URL; ComponentLink3URL: https://lcsc.com/product-detail/Ferrite-Beads_FH-Guangdong-Fenghua-Advanced-Tech-FH-Guangdong-Fenghua-Advanced-Tech-CBW321609U471T_C394508.html
pins: 1, 2

## CBW321609U500T
designator FB?  Impedance @ Frequency: 50Ω@100MHz
Ferrite, 50Ω@100MHz, ±25%, 100mΩ, 3A, SMD 1206; Manufacturer: FH(Guangdong Fenghua Advanced Tech); Manufacturer Part Number: CBW321609U500T; Package Size: 1206; JLCPCB Basic Part: No; JLCPCB Part Number: C361673; Supplier 1: LCSC; Category: Ferrite Beads; Supplier Part Number 1: C361673; Tolerance: ±25%; Rated Current: 3A; DC Resistance: 100mΩ; RoHS: Yes; ComponentLink1Description: Datasheet; ComponentLink1URL: https://wmsc.lcsc.com/wmsc/upload/file/pdf/v2/lcsc/2304140030_FH--Guangdong-Fenghua-Advanced-Tech-CBW321609U500T_C361673.pdf; ComponentLink2Description: JLCPCB Part URL; ComponentLink2URL: https://jlcpcb.com/partdetail/C361673; ComponentLink3Description: LCSC Part URL; ComponentLink3URL: https://lcsc.com/product-detail/Ferrite-Beads_FH-Guangdong-Fenghua-Advanced-Tech-FH-Guangdong-Fenghua-Advanced-Tech-CBW321609U500T_C361673.html
footprint FB-1206 (1206 (3216M) Ferrite)
pins: 1, 2

## CBW321609U501T
designator FB?  Impedance @ Frequency: 500Ω@100MHz
Ferrite, 500Ω@100MHz, ±25%, 200mΩ, 2A, SMD 1206; Manufacturer: FH(Guangdong Fenghua Advanced Tech); Manufacturer Part Number: CBW321609U501T; Package Size: 1206; JLCPCB Basic Part: No; JLCPCB Part Number: C139201; Supplier 1: LCSC; Category: Ferrite Beads; Supplier Part Number 1: C139201; Tolerance: ±25%; Rated Current: 2A; DC Resistance: 200mΩ; RoHS: Yes; ComponentLink1Description: Datasheet; ComponentLink1URL: https://wmsc.lcsc.com/wmsc/upload/file/pdf/v2/lcsc/2304140030_FH--Guangdong-Fenghua-Advanced-Tech-CBW321609U501T_C139201.pdf; ComponentLink2Description: JLCPCB Part URL; ComponentLink2URL: https://jlcpcb.com/partdetail/C139201; ComponentLink3Description: LCSC Part URL; ComponentLink3URL: https://lcsc.com/product-detail/Ferrite-Beads_FH-Guangdong-Fenghua-Advanced-Tech-FH-Guangdong-Fenghua-Advanced-Tech-CBW321609U501T_C139201.html
footprint FB-1206 (1206 (3216M) Ferrite)
pins: 1, 2

## CBW321609U600T
designator FB?  Impedance @ Frequency: 60Ω@100MHz
Ferrite, 60Ω@100MHz, ±25%, 100mΩ, 3A, SMD 1206; Manufacturer: FH(Guangdong Fenghua Advanced Tech); Manufacturer Part Number: CBW321609U600T; Package Size: 1206; JLCPCB Basic Part: No; JLCPCB Part Number: C131463; Supplier 1: LCSC; Category: Ferrite Beads; Supplier Part Number 1: C131463; Tolerance: ±25%; Rated Current: 3A; DC Resistance: 100mΩ; RoHS: Yes; ComponentLink1Description: Datasheet; ComponentLink1URL: https://wmsc.lcsc.com/wmsc/upload/file/pdf/v2/lcsc/2304140030_FH--Guangdong-Fenghua-Advanced-Tech-CBW321609U600T_C131463.pdf; ComponentLink2Description: JLCPCB Part URL; ComponentLink2URL: https://jlcpcb.com/partdetail/C131463; ComponentLink3Description: LCSC Part URL; ComponentLink3URL: https://lcsc.com/product-detail/Ferrite-Beads_FH-Guangdong-Fenghua-Advanced-Tech-FH-Guangdong-Fenghua-Advanced-Tech-CBW321609U600T_C131463.html
footprint FB-1206 (1206 (3216M) Ferrite)
pins: 1, 2

## CBW321609U601T
designator FB?  Impedance @ Frequency: 600Ω@100MHz
Ferrite, 600Ω@100MHz, ±25%, 250mΩ, 2A, SMD 1206; Manufacturer: FH(Guangdong Fenghua Advanced Tech); Manufacturer Part Number: CBW321609U601T; Package Size: 1206; JLCPCB Basic Part: No; JLCPCB Part Number: C73732; Supplier 1: LCSC; Category: Ferrite Beads; Supplier Part Number 1: C73732; Tolerance: ±25%; Rated Current: 2A; DC Resistance: 250mΩ; RoHS: Yes; ComponentLink1Description: Datasheet; ComponentLink1URL: https://wmsc.lcsc.com/wmsc/upload/file/pdf/v2/lcsc/2304140030_FH--Guangdong-Fenghua-Advanced-Tech-CBW321609U601T_C73732.pdf; ComponentLink2Description: JLCPCB Part URL; ComponentLink2URL: https://jlcpcb.com/partdetail/C73732; ComponentLink3Description: LCSC Part URL; ComponentLink3URL: https://lcsc.com/product-detail/Ferrite-Beads_FH-Guangdong-Fenghua-Advanced-Tech-FH-Guangdong-Fenghua-Advanced-Tech-CBW321609U601T_C73732.html
footprint FB-1206 (1206 (3216M) Ferrite)
pins: 1, 2

## CBW321609U700T
designator FB?  Impedance @ Frequency: 70Ω@100MHz
Ferrite, 70Ω@100MHz, ±25%, 100mΩ, 3A, SMD 1206; Manufacturer: FH(Guangdong Fenghua Advanced Tech); Manufacturer Part Number: CBW321609U700T; Package Size: 1206; JLCPCB Basic Part: No; JLCPCB Part Number: C304172; Supplier 1: LCSC; Category: Ferrite Beads; Supplier Part Number 1: C304172; Tolerance: ±25%; Rated Current: 3A; DC Resistance: 100mΩ; RoHS: Yes; ComponentLink1Description: Datasheet; ComponentLink1URL: https://wmsc.lcsc.com/wmsc/upload/file/pdf/v2/lcsc/1912111437_FH--Guangdong-Fenghua-Advanced-Tech-CBW321609U700T_C304172.pdf; ComponentLink2Description: JLCPCB Part URL; ComponentLink2URL: https://jlcpcb.com/partdetail/C304172; ComponentLink3Description: LCSC Part URL; ComponentLink3URL: https://lcsc.com/product-detail/Ferrite-Beads_FH-Guangdong-Fenghua-Advanced-Tech-FH-Guangdong-Fenghua-Advanced-Tech-CBW321609U700T_C304172.html
footprint FB-1206 (1206 (3216M) Ferrite)
pins: 1, 2

## CBW321609U750T
designator FB?  Impedance @ Frequency: 75Ω@100MHz
Ferrite, 75Ω@100MHz, ±25%, SMD 1206; Manufacturer: FH(Guangdong Fenghua Advanced Tech); Manufacturer Part Number: CBW321609U750T; Package Size: 1206; JLCPCB Basic Part: No; JLCPCB Part Number: C316447; Supplier 1: LCSC; Category: Ferrite Beads; Supplier Part Number 1: C316447; Tolerance: ±25%; RoHS: Yes; ComponentLink1Description: Datasheet; ComponentLink1URL: https://wmsc.lcsc.com/wmsc/upload/file/pdf/v2/lcsc/1811011950_FH--Guangdong-Fenghua-Advanced-Tech-CBW321609U750T_C316447.pdf; ComponentLink2Description: JLCPCB Part URL; ComponentLink2URL: https://jlcpcb.com/partdetail/C316447; ComponentLink3Description: LCSC Part URL; ComponentLink3URL: https://lcsc.com/product-detail/Ferrite-Beads_FH-Guangdong-Fenghua-Advanced-Tech-FH-Guangdong-Fenghua-Advanced-Tech-CBW321609U750T_C316447.html
pins: 1, 2

## CBW321609U800T
designator FB?  Impedance @ Frequency: 80Ω@100MHz
Ferrite, 80Ω@100MHz, ±25%, 100mΩ, 3A, SMD 1206; Manufacturer: FH(Guangdong Fenghua Advanced Tech); Manufacturer Part Number: CBW321609U800T; Package Size: 1206; JLCPCB Basic Part: No; JLCPCB Part Number: C130273; Supplier 1: LCSC; Category: Ferrite Beads; Supplier Part Number 1: C130273; Tolerance: ±25%; Rated Current: 3A; DC Resistance: 100mΩ; RoHS: Yes; ComponentLink1Description: Datasheet; ComponentLink1URL: https://wmsc.lcsc.com/wmsc/upload/file/pdf/v2/lcsc/2304140030_FH--Guangdong-Fenghua-Advanced-Tech-CBW321609U800T_C130273.pdf; ComponentLink2Description: JLCPCB Part URL; ComponentLink2URL: https://jlcpcb.com/partdetail/C130273; ComponentLink3Description: LCSC Part URL; ComponentLink3URL: https://lcsc.com/product-detail/Ferrite-Beads_FH-Guangdong-Fenghua-Advanced-Tech-FH-Guangdong-Fenghua-Advanced-Tech-CBW321609U800T_C130273.html
footprint FB-1206 (1206 (3216M) Ferrite)
pins: 1, 2

## CBW321609U801T
designator FB?  Impedance @ Frequency: 800Ω@100MHz
Ferrite, 800Ω@100MHz, ±25%, 250mΩ, 2A, SMD 1206; Manufacturer: FH(Guangdong Fenghua Advanced Tech); Manufacturer Part Number: CBW321609U801T; Package Size: 1206; JLCPCB Basic Part: No; JLCPCB Part Number: C171643; Supplier 1: LCSC; Category: Ferrite Beads; Supplier Part Number 1: C171643; Tolerance: ±25%; Rated Current: 2A; DC Resistance: 250mΩ; RoHS: Yes; ComponentLink1Description: Datasheet; ComponentLink1URL: https://wmsc.lcsc.com/wmsc/upload/file/pdf/v2/lcsc/2304140030_FH--Guangdong-Fenghua-Advanced-Tech-CBW321609U801T_C171643.pdf; ComponentLink2Description: JLCPCB Part URL; ComponentLink2URL: https://jlcpcb.com/partdetail/C171643; ComponentLink3Description: LCSC Part URL; ComponentLink3URL: https://lcsc.com/product-detail/Ferrite-Beads_FH-Guangdong-Fenghua-Advanced-Tech-FH-Guangdong-Fenghua-Advanced-Tech-CBW321609U801T_C171643.html
footprint FB-1206 (1206 (3216M) Ferrite)
pins: 1, 2

## CMBH3216S102LSP
designator FB?  Impedance @ Frequency: 1kΩ@100MHz
Ferrite, 1kΩ@100MHz, ±25%, 300mΩ, 1A, SMD 1206; Manufacturer: Cybermax; Manufacturer Part Number: CMBH3216S102LSP; Package Size: 1206; JLCPCB Basic Part: No; JLCPCB Part Number: C405017; Supplier 1: LCSC; Category: Ferrite Beads; Supplier Part Number 1: C405017; Tolerance: ±25%; Rated Current: 1A; DC Resistance: 300mΩ; RoHS: Yes; ComponentLink1Description: Datasheet; ComponentLink1URL: https://wmsc.lcsc.com/wmsc/upload/file/pdf/v2/lcsc/1912111437_Cybermax-CMBH3216S102LSP_C405017.pdf; ComponentLink2Description: JLCPCB Part URL; ComponentLink2URL: https://jlcpcb.com/partdetail/C405017; ComponentLink3Description: LCSC Part URL; ComponentLink3URL: https://lcsc.com/product-detail/Ferrite-Beads_Cybermax-Cybermax-CMBH3216S102LSP_C405017.html
footprint FB-1206 (1206 (3216M) Ferrite)
pins: 1, 2

## CMBH3216S121PSP
designator FB?  Impedance @ Frequency: 120Ω@100MHz
Ferrite, 120Ω@100MHz, ±25%, 2.5A, SMD 1206; Manufacturer: Cybermax; Manufacturer Part Number: CMBH3216S121PSP; Package Size: 1206; JLCPCB Basic Part: No; JLCPCB Part Number: C405014; Supplier 1: LCSC; Category: Ferrite Beads; Supplier Part Number 1: C405014; Tolerance: ±25%; Rated Current: 2.5A; RoHS: Yes; ComponentLink1Description: Datasheet; ComponentLink1URL: https://wmsc.lcsc.com/wmsc/upload/file/pdf/v2/lcsc/2304140030_Cybermax-CMBH3216S121PSP_C405014.pdf; ComponentLink2Description: JLCPCB Part URL; ComponentLink2URL: https://jlcpcb.com/partdetail/C405014; ComponentLink3Description: LCSC Part URL; ComponentLink3URL: https://lcsc.com/product-detail/Ferrite-Beads_Cybermax-Cybermax-CMBH3216S121PSP_C405014.html
pins: 1, 2

## CMBH3216S221NSP
designator FB?  Impedance @ Frequency: 220Ω@100MHz
Ferrite, 220Ω@100MHz, ±25%, 2A, SMD 1206; Manufacturer: Cybermax; Manufacturer Part Number: CMBH3216S221NSP; Package Size: 1206; JLCPCB Basic Part: No; JLCPCB Part Number: C405015; Supplier 1: LCSC; Category: Ferrite Beads; Supplier Part Number 1: C405015; Tolerance: ±25%; Rated Current: 2A; RoHS: Yes; ComponentLink1Description: Datasheet; ComponentLink1URL: https://wmsc.lcsc.com/wmsc/upload/file/pdf/v2/lcsc/2304140030_Cybermax-CMBH3216S221NSP_C405015.pdf; ComponentLink2Description: JLCPCB Part URL; ComponentLink2URL: https://jlcpcb.com/partdetail/C405015; ComponentLink3Description: LCSC Part URL; ComponentLink3URL: https://lcsc.com/product-detail/Ferrite-Beads_Cybermax-Cybermax-CMBH3216S221NSP_C405015.html
pins: 1, 2

## CMBH3216S600USP
designator FB?  Impedance @ Frequency: 60Ω@100MHz
Ferrite, 60Ω@100MHz, ±25%, 15mΩ, 5A, SMD 1206; Manufacturer: Cybermax; Manufacturer Part Number: CMBH3216S600USP; Package Size: 1206; JLCPCB Basic Part: No; JLCPCB Part Number: C405012; Supplier 1: LCSC; Category: Ferrite Beads; Supplier Part Number 1: C405012; Tolerance: ±25%; Rated Current: 5A; DC Resistance: 15mΩ; RoHS: Yes; ComponentLink1Description: Datasheet; ComponentLink1URL: https://wmsc.lcsc.com/wmsc/upload/file/pdf/v2/lcsc/2304140030_Cybermax-CMBH3216S600USP_C405012.pdf; ComponentLink2Description: JLCPCB Part URL; ComponentLink2URL: https://jlcpcb.com/partdetail/C405012; ComponentLink3Description: LCSC Part URL; ComponentLink3URL: https://lcsc.com/product-detail/Ferrite-Beads_Cybermax-Cybermax-CMBH3216S600USP_C405012.html
footprint FB-1206 (1206 (3216M) Ferrite)
pins: 1, 2

## CMBH3216S601NSP
designator FB?  Impedance @ Frequency: 600Ω@100MHz
Ferrite, 600Ω@100MHz, ±25%, 100mΩ, 2A, SMD 1206; Manufacturer: Cybermax; Manufacturer Part Number: CMBH3216S601NSP; Package Size: 1206; JLCPCB Basic Part: No; JLCPCB Part Number: C405016; Supplier 1: LCSC; Category: Ferrite Beads; Supplier Part Number 1: C405016; Tolerance: ±25%; Rated Current: 2A; DC Resistance: 100mΩ; RoHS: Yes; ComponentLink1Description: Datasheet; ComponentLink1URL: https://wmsc.lcsc.com/wmsc/upload/file/pdf/v2/lcsc/2304140030_Cybermax-CMBH3216S601NSP_C405016.pdf; ComponentLink2Description: JLCPCB Part URL; ComponentLink2URL: https://jlcpcb.com/partdetail/C405016; ComponentLink3Description: LCSC Part URL; ComponentLink3URL: https://lcsc.com/product-detail/Ferrite-Beads_Cybermax-Cybermax-CMBH3216S601NSP_C405016.html
footprint FB-1206 (1206 (3216M) Ferrite)
pins: 1, 2

## CMBH3216S900QSP
designator FB?  Impedance @ Frequency: 90Ω@100MHz
Ferrite, 90Ω@100MHz, ±25%, 25mΩ, 3A, SMD 1206; Manufacturer: Cybermax; Manufacturer Part Number: CMBH3216S900QSP; Package Size: 1206; JLCPCB Basic Part: No; JLCPCB Part Number: C405013; Supplier 1: LCSC; Category: Ferrite Beads; Supplier Part Number 1: C405013; Tolerance: ±25%; Rated Current: 3A; DC Resistance: 25mΩ; RoHS: Yes; ComponentLink1Description: Datasheet; ComponentLink1URL: https://wmsc.lcsc.com/wmsc/upload/file/pdf/v2/lcsc/2304140030_Cybermax-CMBH3216S900QSP_C405013.pdf; ComponentLink2Description: JLCPCB Part URL; ComponentLink2URL: https://jlcpcb.com/partdetail/C405013; ComponentLink3Description: LCSC Part URL; ComponentLink3URL: https://lcsc.com/product-detail/Ferrite-Beads_Cybermax-Cybermax-CMBH3216S900QSP_C405013.html
footprint FB-1206 (1206 (3216M) Ferrite)
pins: 1, 2

## FBMA-11-321611-101A60T
designator FB?  Impedance @ Frequency: 100Ω@100MHz
Ferrite, 100Ω@100MHz, ±25%, 10mΩ, 6A, SMD 1206; Manufacturer: Kingcore; Manufacturer Part Number: FBMA-11-321611-101A60T; Package Size: 1206; JLCPCB Basic Part: No; JLCPCB Part Number: C491620; Supplier 1: LCSC; Category: Ferrite Beads; Supplier Part Number 1: C491620; Tolerance: ±25%; Rated Current: 6A; DC Resistance: 10mΩ; RoHS: Yes; ComponentLink1Description: Datasheet; ComponentLink1URL: https://datasheet.lcsc.com/lcsc/2003182011_Kingcore-FBMA-11-321611-101A60T_C491620.pdf; ComponentLink2Description: JLCPCB Part URL; ComponentLink2URL: https://jlcpcb.com/partdetail/C491620; ComponentLink3Description: LCSC Part URL; ComponentLink3URL: https://lcsc.com/product-detail/Ferrite-Beads_Kingcore-Kingcore-FBMA-11-321611-101A60T_C491620.html
footprint FB-1206 (1206 (3216M) Ferrite)
pins: 1, 2

## FBMA-11-321611-102A10T
designator FB?  Impedance @ Frequency: 1kΩ@100MHz
Ferrite, 1kΩ@100MHz, ±25%, 200mΩ, 1A, SMD 1206; Manufacturer: Kingcore; Manufacturer Part Number: FBMA-11-321611-102A10T; Package Size: 1206; JLCPCB Basic Part: No; JLCPCB Part Number: C491637; Supplier 1: LCSC; Category: Ferrite Beads; Supplier Part Number 1: C491637; Tolerance: ±25%; Rated Current: 1A; DC Resistance: 200mΩ; RoHS: Yes; ComponentLink1Description: Datasheet; ComponentLink1URL: https://datasheet.lcsc.com/lcsc/2003182012_Kingcore-FBMA-11-321611-102A10T_C491637.pdf; ComponentLink2Description: JLCPCB Part URL; ComponentLink2URL: https://jlcpcb.com/partdetail/C491637; ComponentLink3Description: LCSC Part URL; ComponentLink3URL: https://lcsc.com/product-detail/Ferrite-Beads_Kingcore-Kingcore-FBMA-11-321611-102A10T_C491637.html
footprint FB-1206 (1206 (3216M) Ferrite)
pins: 1, 2

## FBMA-11-321611-121A30T
designator FB?  Impedance @ Frequency: 120Ω@100MHz
Ferrite, 120Ω@100MHz, ±25%, 40mΩ, 3A, SMD 1206; Manufacturer: Kingcore; Manufacturer Part Number: FBMA-11-321611-121A30T; Package Size: 1206; JLCPCB Basic Part: No; JLCPCB Part Number: C491622; Supplier 1: LCSC; Category: Ferrite Beads; Supplier Part Number 1: C491622; Tolerance: ±25%; Rated Current: 3A; DC Resistance: 40mΩ; RoHS: Yes; ComponentLink1Description: Datasheet; ComponentLink1URL: https://datasheet.lcsc.com/lcsc/2003182011_Kingcore-FBMA-11-321611-121A30T_C491622.pdf; ComponentLink2Description: JLCPCB Part URL; ComponentLink2URL: https://jlcpcb.com/partdetail/C491622; ComponentLink3Description: LCSC Part URL; ComponentLink3URL: https://lcsc.com/product-detail/Ferrite-Beads_Kingcore-Kingcore-FBMA-11-321611-121A30T_C491622.html
footprint FB-1206 (1206 (3216M) Ferrite)
pins: 1, 2

## FBMA-11-321611-300A60T
designator FB?  Impedance @ Frequency: 30Ω@100MHz
Ferrite, 30Ω@100MHz, ±25%, 10mΩ, 6A, SMD 1206; Manufacturer: Kingcore; Manufacturer Part Number: FBMA-11-321611-300A60T; Package Size: 1206; JLCPCB Basic Part: No; JLCPCB Part Number: C491605; Supplier 1: LCSC; Category: Ferrite Beads; Supplier Part Number 1: C491605; Tolerance: ±25%; Rated Current: 6A; DC Resistance: 10mΩ; RoHS: Yes; ComponentLink1Description: Datasheet; ComponentLink1URL: https://datasheet.lcsc.com/lcsc/2003182011_Kingcore-FBMA-11-321611-300A60T_C491605.pdf; ComponentLink2Description: JLCPCB Part URL; ComponentLink2URL: https://jlcpcb.com/partdetail/C491605; ComponentLink3Description: LCSC Part URL; ComponentLink3URL: https://lcsc.com/product-detail/Ferrite-Beads_Kingcore-Kingcore-FBMA-11-321611-300A60T_C491605.html
footprint FB-1206 (1206 (3216M) Ferrite)
pins: 1, 2

## FBMA-11-321611-330A60T
designator FB?  Impedance @ Frequency: 33Ω@100MHz
Ferrite, 33Ω@100MHz, ±25%, 10mΩ, 6A, SMD 1206; Manufacturer: Kingcore; Manufacturer Part Number: FBMA-11-321611-330A60T; Package Size: 1206; JLCPCB Basic Part: No; JLCPCB Part Number: C491609; Supplier 1: LCSC; Category: Ferrite Beads; Supplier Part Number 1: C491609; Tolerance: ±25%; Rated Current: 6A; DC Resistance: 10mΩ; RoHS: Yes; ComponentLink1Description: Datasheet; ComponentLink1URL: https://datasheet.lcsc.com/lcsc/2003182011_Kingcore-FBMA-11-321611-330A60T_C491609.pdf; ComponentLink2Description: JLCPCB Part URL; ComponentLink2URL: https://jlcpcb.com/partdetail/C491609; ComponentLink3Description: LCSC Part URL; ComponentLink3URL: https://lcsc.com/product-detail/Ferrite-Beads_Kingcore-Kingcore-FBMA-11-321611-330A60T_C491609.html
footprint FB-1206 (1206 (3216M) Ferrite)
pins: 1, 2

## FBMA-11-321611-600A30T
designator FB?  Impedance @ Frequency: 60Ω@100MHz
Ferrite, 60Ω@100MHz, ±25%, 40mΩ, 3A, SMD 1206; Manufacturer: Kingcore; Manufacturer Part Number: FBMA-11-321611-600A30T; Package Size: 1206; JLCPCB Basic Part: No; JLCPCB Part Number: C491614; Supplier 1: LCSC; Category: Ferrite Beads; Supplier Part Number 1: C491614; Tolerance: ±25%; Rated Current: 3A; DC Resistance: 40mΩ; RoHS: Yes; ComponentLink1Description: Datasheet; ComponentLink1URL: https://datasheet.lcsc.com/lcsc/2003182011_Kingcore-FBMA-11-321611-600A30T_C491614.pdf; ComponentLink2Description: JLCPCB Part URL; ComponentLink2URL: https://jlcpcb.com/partdetail/C491614; ComponentLink3Description: LCSC Part URL; ComponentLink3URL: https://lcsc.com/product-detail/Ferrite-Beads_Kingcore-Kingcore-FBMA-11-321611-600A30T_C491614.html
footprint FB-1206 (1206 (3216M) Ferrite)
pins: 1, 2

## FBMH3216HM221NT
designator FB?  Impedance @ Frequency: 220Ω@100MHz
Ferrite, 220Ω@100MHz, ±30%, 20mΩ, 4A, SMD 1206; Manufacturer: Taiyo Yuden; Manufacturer Part Number: FBMH3216HM221NT; Package Size: 1206; JLCPCB Basic Part: No; JLCPCB Part Number: C454099; Supplier 1: LCSC; Category: Ferrite Beads; Supplier Part Number 1: C454099; Tolerance: ±30%; Rated Current: 4A; DC Resistance: 20mΩ; RoHS: Yes; ComponentLink1Description: Datasheet; ComponentLink1URL: https://wmsc.lcsc.com/wmsc/upload/file/pdf/v2/lcsc/2304140030_Taiyo-Yuden-FBMH3216HM221NT_C454099.pdf; ComponentLink2Description: JLCPCB Part URL; ComponentLink2URL: https://jlcpcb.com/partdetail/C454099; ComponentLink3Description: LCSC Part URL; ComponentLink3URL: https://lcsc.com/product-detail/Ferrite-Beads_Taiyo-Yuden-Taiyo-Yuden-FBMH3216HM221NT_C454099.html
footprint FB-1206 (1206 (3216M) Ferrite)
pins: 1, 2

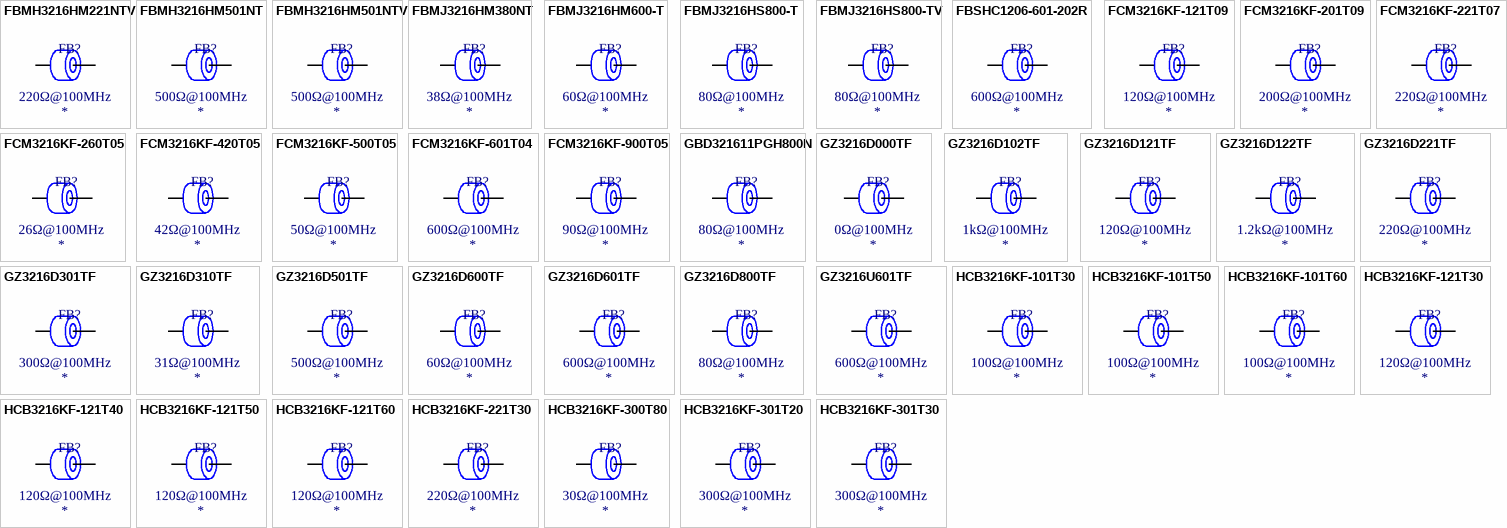
[diagram p4: symbols FBMH3216HM221NTV to HCB3216KF-301T30]

## FBMH3216HM221NTV
designator FB?  Impedance @ Frequency: 220Ω@100MHz
Ferrite, 220Ω@100MHz, ±30%, 20mΩ, 4A, SMD 1206; Manufacturer: Taiyo Yuden; Manufacturer Part Number: FBMH3216HM221NTV; Package Size: 1206; JLCPCB Basic Part: No; JLCPCB Part Number: C2880354; Supplier 1: LCSC; Category: Ferrite Beads; Supplier Part Number 1: C2880354; Tolerance: ±30%; Rated Current: 4A; DC Resistance: 20mΩ; RoHS: Yes; ComponentLink1Description: Datasheet; ComponentLink1URL: https://wmsc.lcsc.com/wmsc/upload/file/pdf/v2/lcsc/2108160930_Taiyo-Yuden-FBMH3216HM221NTV_C2880354.pdf; ComponentLink2Description: JLCPCB Part URL; ComponentLink2URL: https://jlcpcb.com/partdetail/C2880354; ComponentLink3Description: LCSC Part URL; ComponentLink3URL: https://lcsc.com/product-detail/Ferrite-Beads_Taiyo-Yuden-Taiyo-Yuden-FBMH3216HM221NTV_C2880354.html
footprint FB-1206 (1206 (3216M) Ferrite)
pins: 1, 2

## FBMH3216HM501NT
designator FB?  Impedance @ Frequency: 500Ω@100MHz
Ferrite, 500Ω@100MHz, ±30%, 70mΩ, 2A, SMD 1206; Manufacturer: Taiyo Yuden; Manufacturer Part Number: FBMH3216HM501NT; Package Size: 1206; JLCPCB Basic Part: No; JLCPCB Part Number: C454100; Supplier 1: LCSC; Category: Ferrite Beads; Supplier Part Number 1: C454100; Tolerance: ±30%; Rated Current: 2A; DC Resistance: 70mΩ; RoHS: Yes; ComponentLink1Description: Datasheet; ComponentLink1URL: https://wmsc.lcsc.com/wmsc/upload/file/pdf/v2/lcsc/2304140030_Taiyo-Yuden-FBMH3216HM501NT_C454100.pdf; ComponentLink2Description: JLCPCB Part URL; ComponentLink2URL: https://jlcpcb.com/partdetail/C454100; ComponentLink3Description: LCSC Part URL; ComponentLink3URL: https://lcsc.com/product-detail/Ferrite-Beads_Taiyo-Yuden-Taiyo-Yuden-FBMH3216HM501NT_C454100.html
footprint FB-1206 (1206 (3216M) Ferrite)
pins: 1, 2

## FBMH3216HM501NTV
designator FB?  Impedance @ Frequency: 500Ω@100MHz
Ferrite, 500Ω@100MHz, ±30%, 70mΩ, 2A, SMD 1206; Manufacturer: Taiyo Yuden; Manufacturer Part Number: FBMH3216HM501NTV; Package Size: 1206; JLCPCB Basic Part: No; JLCPCB Part Number: C515371; Supplier 1: LCSC; Category: Ferrite Beads; Supplier Part Number 1: C515371; Tolerance: ±30%; Rated Current: 2A; DC Resistance: 70mΩ; RoHS: Yes; ComponentLink1Description: Datasheet; ComponentLink1URL: https://wmsc.lcsc.com/wmsc/upload/file/pdf/v2/lcsc/2304140030_Taiyo-Yuden-FBMH3216HM501NTV_C515371.pdf; ComponentLink2Description: JLCPCB Part URL; ComponentLink2URL: https://jlcpcb.com/partdetail/C515371; ComponentLink3Description: LCSC Part URL; ComponentLink3URL: https://lcsc.com/product-detail/Ferrite-Beads_Taiyo-Yuden-Taiyo-Yuden-FBMH3216HM501NTV_C515371.html
footprint FB-1206 (1206 (3216M) Ferrite)
pins: 1, 2

## FBMJ3216HM380NT
designator FB?  Impedance @ Frequency: 38Ω@100MHz
Ferrite, 38Ω@100MHz, ±30%, 5mΩ, 6A, SMD 1206; Manufacturer: Taiyo Yuden; Manufacturer Part Number: FBMJ3216HM380NT; Package Size: 1206; JLCPCB Basic Part: No; JLCPCB Part Number: C92885; Supplier 1: LCSC; Category: Ferrite Beads; Supplier Part Number 1: C92885; Tolerance: ±30%; Rated Current: 6A; DC Resistance: 5mΩ; RoHS: Yes; ComponentLink1Description: Datasheet; ComponentLink1URL: https://wmsc.lcsc.com/wmsc/upload/file/pdf/v2/lcsc/1810292010_Taiyo-Yuden-FBMJ3216HM380NT_C92885.pdf; ComponentLink2Description: JLCPCB Part URL; ComponentLink2URL: https://jlcpcb.com/partdetail/C92885; ComponentLink3Description: LCSC Part URL; ComponentLink3URL: https://lcsc.com/product-detail/Ferrite-Beads_Taiyo-Yuden-Taiyo-Yuden-FBMJ3216HM380NT_C92885.html
footprint FB-1206 (1206 (3216M) Ferrite)
pins: 1, 2